# EAGLE library part LIGHT_TSL2561 (library duppy_common)
TSL2561 Light-To-Digital Sensor Mouser Part Numbers: CS (obsolete): 856-TSL2561CS DFN (cheapest): 856-TSL2561FN
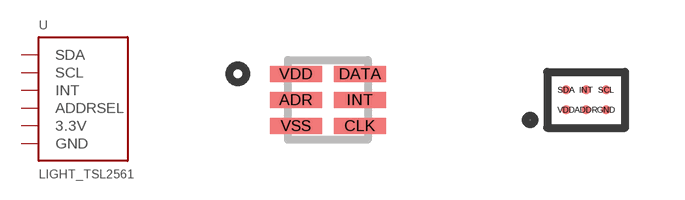
[diagram p4: symbol with the pads of TSL2561_FN; footprints TSL2561_FN, TSL2561_CS6]

Designator prefix U

## LIGHT_TSL2561  [TSL2561_FN]
ADR  ADDRSEL
CLK  SCL
DATA  SDA
INT  INT
VDD  3.3V
VSS  GND

## LIGHT_TSL2561CS  [TSL2561_CS6]
ADDR  ADDRSEL
GND  GND
INT  INT
SCL  SCL
SDA  SDA
VDD  3.3V

## Footprint TSL2561_FN (pad centres in mm)
2.0x2.0mm DFN (0.65mm pitch)
smd 1.3 x 0.4: ADR -0.8,0; CLK 0.8,-0.65; DATA 0.8,0.65; INT 0.8,0; VDD -0.8,0.65; VSS -0.8,-0.65

## Footprint TSL2561_CS6 (pad centres in mm)
6 Lead Chipscale 0.21mm pads, 0.5mm pitch
smd 0.21 x 0.21: ADDR 0,-0.25; GND 0.5,-0.25; INT 0,0.25; SCL 0.5,0.25; SDA -0.5,0.25; VDD -0.5,-0.25